# Altium schematic symbol library microswitches.SchLib: 26 symbols
Pins are listed as number, name and electrical type; pins without a type are passive.

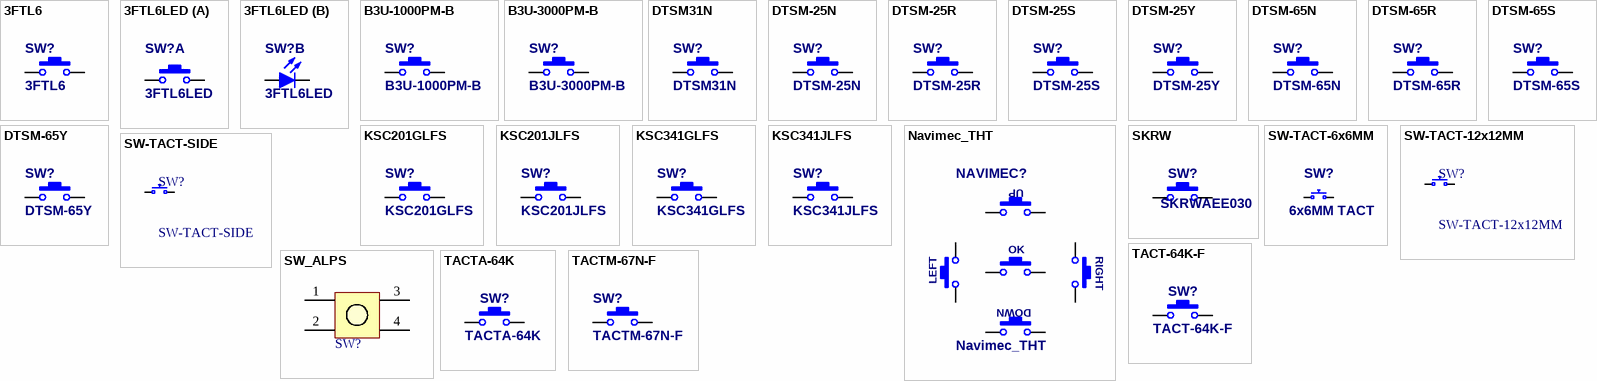
[diagram p0: symbols 3FTL6 to TACTM-67N-F]

## 3FTL6
designator SW?
MEC 10,1x10,1mm Through-Hole Tactile SPST-NO Switch
footprint 3FTxx (MEC 10,1x10,1mm Through-Hole Tactile SPST-NO Switch)
pins: 1, 2

## 3FTL6LED
designator SW?
MEC 10,1x10,1mm Through-Hole Tactile SPST-NO Switch with LED
footprint 3FTxxLED (MEC 10,1x10,1mm Through-Hole Tactile SPST-NO Switch)
part A pins: 1, 2
part B pins: 1 A, 2 K

## B3U-1000PM-B
designator SW?
OMRON Ultra-small Tactile Switch - 12V/50mA
footprint B3U-1000PM-B (OMRON Ultra-small Tactile Switch B2U Series)
pins: 1, 2

## B3U-3000PM-B
designator SW?
OMRON Right Angle Ultra-small Tactile Switch - 12V/50mA
footprint B3U-3000PM-B (OMRON Ultra-small Tactile Switch B2U Series)
pins: 1, 2

## DTSM31N
designator SW?
DIPTRONICS 6x3,5mm SMD Tactile SPST-NO Switch
footprint DTSM-3
pins: 1, 2

## DTSM-25N
designator SW?
DIPTRONICS Brown 12x12mm SMD Tactile SPST-NO Switch; Supplier 1: TME; Supplier Part Number 1: DTSM-25N-V-B
footprint DTSM-25N
pins: 1, 2

## DTSM-25R
designator SW?
DIPTRONICS Red 12x12mm SMD Tactile SPST-NO Switch; Supplier 1: TME; Supplier Part Number 1: DTSM-25R-V-B
footprint DTSM-25R (Diptronics SPST-NO, 50mA/12VDC Red TACT Switch)
pins: 1, 2

## DTSM-25S
designator SW?
DIPTRONICS Orange 12x12mm SMD Tactile SPST-NO Switch; Supplier 1: TME; Supplier Part Number 1: DTSM-25S-V-B
footprint DTSM-25S (Diptronics SPST-NO, 50mA/12VDC Orange TACT Switch)
pins: 1, 2

## DTSM-25Y
designator SW?
DIPTRONICS Yellow 12x12mm SMD Tactile SPST-NO Switch; Supplier 1: TME; Supplier Part Number 1: DTSM-25Y-V-B
footprint DTSM-25Y (Diptronics SPST-NO, 50mA/12VDC Yellow TACT Switch)
pins: 1, 2

## DTSM-65N
designator SW?
DIPTRONICS Brown 6x6mm SMD Tactile SPST-NO Switch; Supplier 1: TME; Supplier Part Number 1: DTSM-65N-V-B
footprint DTSM-65N (Diptronics SPST-NO, 50mA/12VDC Brown TACT Switch)
pins: 1, 2

## DTSM-65R
designator SW?
DIPTRONICS Red 6x6mm SMD Tactile SPST-NO Switch; Supplier 1: TME; Supplier Part Number 1: DTSM-65R-V-B
footprint DTSM-65R (Diptronics SPST-NO, 50mA/12VDC Red TACT Switch)
pins: 1, 2

## DTSM-65S
designator SW?
DIPTRONICS Orange 6x6mm SMD Tactile SPST-NO Switch; Supplier 1: TME; Supplier Part Number 1: DTSM-65S-V-B
footprint DTSM-65S (Diptronics SPST-NO, 50mA/12VDC Orange TACT Switch)
pins: 1, 2

## DTSM-65Y
designator SW?
DIPTRONICS Yellow 6x6mm SMD Tactile SPST-NO Switch; Supplier 1: TME; Supplier Part Number 1: DTSM-65Y-V-B
footprint DTSM-65Y (Diptronics SPST-NO, 50mA/12VDC Yellow  TACT Switch)
pins: 1, 2

## KSC201GLFS
designator SW?
Sealed, IP67 rated tact switches for SMT.
footprint ITT KSC2 GULLWIND (G) (KSC Series Sealed Tact Switch for SMT)
pins: 1, 2

## KSC201JLFS
designator SW?
Sealed, IP67 rated tact switches for SMT.
footprint ITT KSC2 J BEND (J) (KSC Series Sealed Tact Switch for SMT)
pins: 1, 2

## KSC341GLFS
designator SW?
Sealed, IP67 rated tact switches for SMT.
footprint ITT KSC2 GULLWIND (G) (KSC Series Sealed Tact Switch for SMT)
pins: 1, 2

## KSC341JLFS
designator SW?
Sealed, IP67 rated tact switches for SMT.
footprint ITT KSC2 J BEND (J) (KSC Series Sealed Tact Switch for SMT)
pins: 1, 2

## Navimec_THT
designator NAVIMEC?
MEC Navimec Module
footprint Navimec_THT (Navimec Module)
pins: 1, 2, 3, 4, 5, 6, 7, 8, 9, 10
text: UP; OK; RIGHT; LEFT; DOWN

## SKRW
designator SW?, comment SKRWAEE030
ALPS 3.7mm Square Low-profile Type (Surface Mount) SKRW Series; Published: 30-Jun-2006
footprint SKRW (ALPS SKRW Series (AKA: C&K PTS540))
pins: 1, 2

## SW-TACT-6x6MM
designator SW?, comment 6x6MM TACT
6 x 6 mm Tactile Switch; Published: 30-Jun-2006
pins: 1, 2, 3 hidden, 4 hidden
1 alternate drawing of the same symbol

## SW-TACT-12x12MM
designator SW?
12 x 12 mm Tactile Switch; Published: 30-Jun-2006
pins: 1, 2, 3 hidden to GND, 4 hidden to GND
1 alternate drawing of the same symbol

## SW-TACT-SIDE
designator SW?
Side-operated Tactile Switch; Published: 30-Jun-2006
footprint TACT_SO_THT
pins: 1, 2, 3 hidden to GND, 4 hidden to GND
1 alternate drawing of the same symbol

## SW_ALPS
designator SW?, comment PCB Micro Switch  (value not drawn)
footprint TACT_6x6_THT_V1
pins: 1, 2, 3, 4
1 alternate drawing of the same symbol

## TACT-64K-F
designator SW?
6x6mm THT Tactile SPST-NO Switch; Published: 30-Jun-2006
footprint TACT-64K-F
pins: 1, 2

## TACTA-64K
designator SW?
Side-operated (angeled) 6x6 mm Tactile Microswitch; Published: 30-Jun-2006
footprint TACTA-64x (Side operated (angled) SPST-NO Microswitch)
pins: 1, 2, 3 hidden to GND, 4 hidden to GND

## TACTM-67N-F
designator SW?
6x6mm SMD Tactile SPST-NO Switch
footprint DTSM-6
footprint DTSM-6_PIN_NOS
pins: 1, 2
1 alternate drawing of the same symbol